# Altium schematic symbol library MAX1668.SchLib: 1 symbol
Pins are listed as number, name and electrical type; pins without a type are passive.

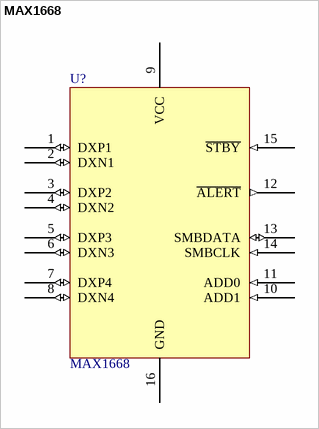
[diagram p0: symbol MAX1668]

## MAX1668
designator U?
pins: 1 DXP1 (io), 2 DXN1 (io), 3 DXP2 (io), 4 DXN2 (io), 5 DXP3 (io), 6 DXN3 (io), 7 DXP4 (io), 8 DXN4 (io), 9 VCC (power), 10 ADD1 (in), 11 ADD0 (in), 12 ~{ALERT} (out), 13 SMBDATA (io), 14 SMBCLK (in), 15 ~{STBY} (in), 16 GND (power)